# EAGLE library part MAX890 (library DSDEagleLibrary)
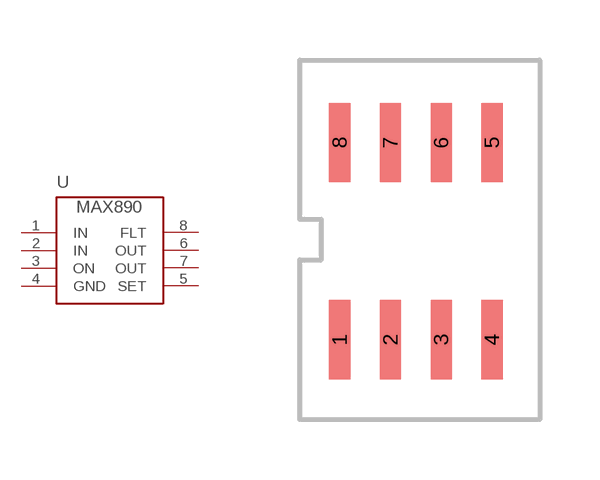
[diagram p6: symbol with the pads of MAX890; footprint MAX890]

Designator prefix -

## MAX890  [MAX890]
1  IN
2  IN
3  ON
4  GND
5  SET
6  OUT
7  OUT
8  FLT

## Footprint MAX890 (pad centres in mm)
smd 0.53 x 1.98: 1 0,0; 2 1.27,0; 3 2.54,0; 4 3.81,0; 5 3.81,4.93; 6 2.54,4.93; 7 1.27,4.93; 8 0,4.93